# Altium footprint library Resistor.PcbLib: 31 footprints (part 1 of 2)
Each footprint in its own frame and in the unit in brackets; x right, y up, seen from the top. Pads: shape width x height; smd on the part's side, far side on the other; paste and mask are expansions set on the pad; w line width, h text height; cw(c..) or ccw(c..) is an arc to the next point about the centre after c.
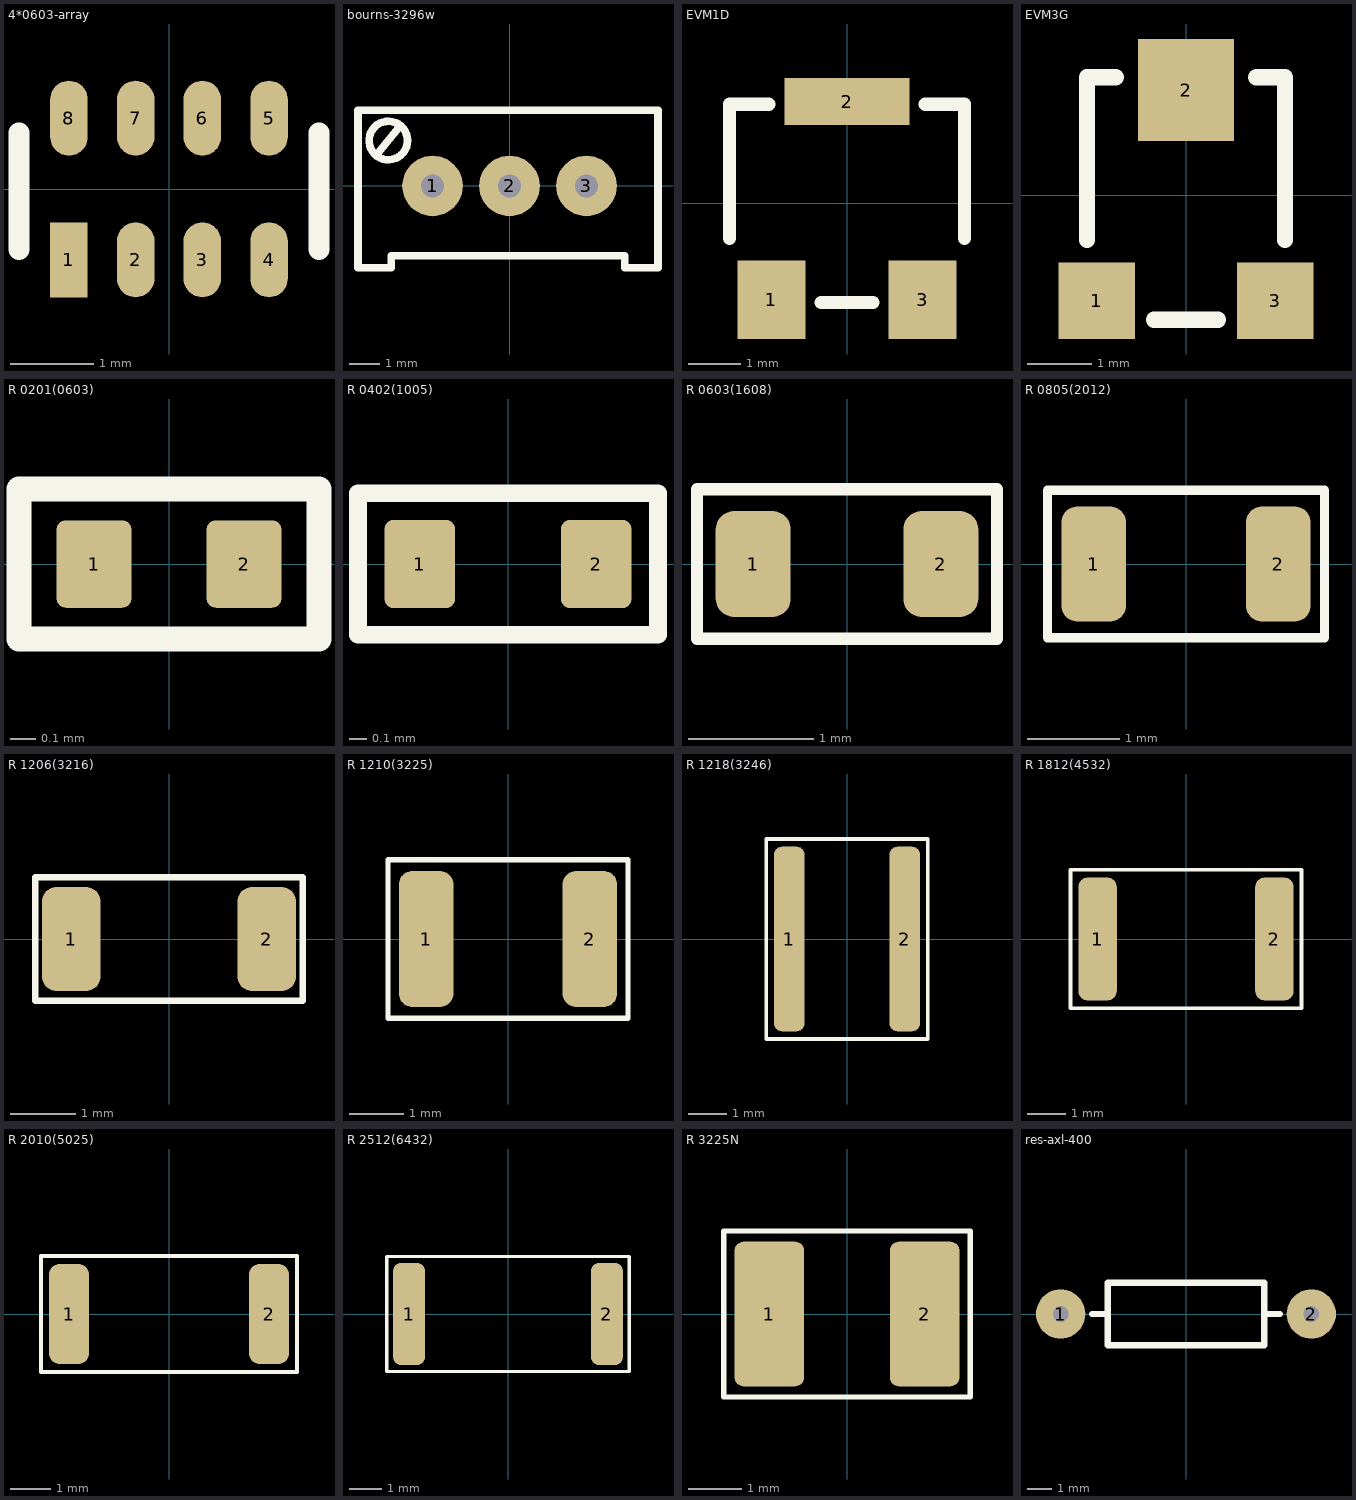
[diagram p0: the footprints below, top view; thin cyan lines are the x and y axes]

## 4*0603-array [mm]
pads (8):
  rect 0.45x0.9 smd: 1(-1.2,-0.85)
  oval 0.45x0.9 smd: 2(-0.4,-0.85) 3(0.4,-0.85) 4(1.2,-0.85) 5(1.2,0.85) 6(0.4,0.85) 7(-0.4,0.85) 8(-1.2,0.85)
Top Overlay:
  lines w0.25: -1.8,-0.725 -1.8,0.675 ; 1.8,-0.725 1.8,0.675
3D body "User Library-Array-1206-4Way-Var1.STEP": height 0.5, standoff 0, extent -1.6,-0.8 1.6,0.8

## bourns-3296w [mm] "Bourns 3296w"
height 12
pads (3):
  round 2 hole 0.762: 1(-2.54,0) 2(0,0) 3(2.54,0)
Top Overlay:
  circle w0.254: c-4,1.5 r0.635
  lines w0.25: -5,-2.7 -3.9,-2.7 -3.9,-2.3 3.8,-2.3 3.8,-2.7 4.9,-2.7 ; -4.4,1 -3.6,2
  lines w0.254: -5,-2.7 -5,2.5 4.9,2.5 4.9,-2.7
3D body "User Library-3296W.STEP": height 12.05, standoff -1.1, extent -4.79,-2.463 4.74,2.337

## EVM1D [mm] "4 mm Square SMT Trimmer Potentiometers"
height 1.4
pads (3):
  rect 1.3x1.5 smd: 1(-1.45,-1.85) 3(1.45,-1.85)
  rect 2.4x0.9 smd: 2(0,1.95)
Top Overlay:
  lines w0.254: -2.25,-0.675 -2.25,1.9 -1.5,1.9 ; -0.5,-1.9 0.5,-1.9 ; 1.5,1.9 2.25,1.9 2.25,-0.675

## EVM3G [mm] "3 mm Square SMT Trimmer Potentiometers"
height 1.65
pads (3):
  rect 1.2x1.2 smd: 1(-1.4,-1.65) 3(1.4,-1.65)
  rect 1.5x1.6 smd: 2(0,1.65)
Top Overlay:
  lines w0.254: -1.55,-0.7 -1.55,1.85 -1.1,1.85 ; -0.5,-1.95 0.5,-1.95 ; 1.1,1.85 1.55,1.85 1.55,-0.7

## R 0201(0603) [mm]
height 0.35
pads (2):
  rrect25% 0.3x0.35 smd paste-0.1 mask+0.102: 1(-0.3,0) 2(0.3,0)
Top Overlay:
  lines w0.1: -0.6,-0.3 0.6,-0.3 0.6,0.3 -0.6,0.3 -0.6,-0.3
Top Paste:
  region: -0.285,0.135 -0.315,0.135 -0.339,0.135 -0.383,0.117 -0.417,0.083 -0.435,0.039 -0.435,0.015 -0.435,-0.015 -0.435,-0.039 -0.417,-0.083 -0.383,-0.117 -0.339,-0.135 -0.315,-0.135 -0.285,-0.135 -0.261,-0.135 -0.217,-0.117 -0.183,-0.083 -0.165,-0.039 -0.165,-0.015 -0.165,0.015 -0.165,0.039 -0.183,0.083 -0.217,0.117 -0.261,0.135
  region: 0.285,0.135 0.315,0.135 0.339,0.135 0.383,0.117 0.417,0.083 0.435,0.039 0.435,0.015 0.435,-0.015 0.435,-0.039 0.417,-0.083 0.383,-0.117 0.339,-0.135 0.315,-0.135 0.285,-0.135 0.261,-0.135 0.217,-0.117 0.183,-0.083 0.165,-0.039 0.165,-0.015 0.165,0.015 0.165,0.039 0.183,0.083 0.217,0.117 0.261,0.135
Top Solder:
  region: -0.425,0.25 0.425,0.25 0.45,0.25 0.496,0.231 0.531,0.196 0.55,0.15 0.55,0.125 0.55,-0.125 0.55,-0.15 0.531,-0.196 0.496,-0.231 0.45,-0.25 0.425,-0.25 -0.425,-0.25 -0.45,-0.25 -0.496,-0.231 -0.531,-0.196 -0.55,-0.15 -0.55,-0.125 -0.55,0.125 -0.55,0.15 -0.531,0.196 -0.496,0.231 -0.45,0.25
3D body "SMD R-0201.STEP": height 0.34, standoff 0, extent -0.34,-0.165 0.34,0.165

## R 0402(1005) [mm]
height 0.35
pads (2):
  rrect25% 0.4x0.5 smd mask+0.102: 1(-0.5,0) 2(0.5,0)
Top Overlay:
  lines w0.1: -0.85,-0.4 -0.85,0.4 0.85,0.4 0.85,-0.4 -0.85,-0.4
3D body "SMD R-0402.STEP": height 0.35, standoff 0, extent -0.5,-0.25 0.5,0.25

## R 0603(1608) [mm]
height 0.45
pads (2):
  rrect50% 0.6x0.85 smd: 1(-0.75,0) 2(0.75,0)
Top Overlay:
  lines w0.1: -1.2,-0.6 1.2,-0.6 1.2,0.6 -1.2,0.6 -1.2,-0.6
3D body "SMD R-0603.STEP": height 0.45, standoff -0.01, extent -0.8,-0.4 0.8,0.4

## R 0805(2012) [mm]
height 0.55
pads (2):
  rrect50% 0.7x1.25 smd: 1(-1,0) 2(1,0)
Top Overlay:
  lines w0.1: -1.5,-0.8 -1.5,0.8 1.5,0.8 1.5,-0.8 -1.5,-0.8
3D body "SMD R-0805.STEP": height 0.6, standoff 0, extent -1,-0.625 1,0.625

## R 1206(3216) [mm]
height 0.55
pads (2):
  rrect50% 0.9x1.6 smd mask+0.102: 1(-1.5,0) 2(1.5,0)
Top Overlay:
  lines w0.1: -2.05,-0.95 2.05,-0.95 2.05,0.95 -2.05,0.95 -2.05,-0.95
3D body "SMD R-1206.STEP": height 0.6, standoff 0, extent -1.6,-0.8 1.6,0.8

## R 1210(3225) [mm]
height 0.55
pads (2):
  rrect50% 1x2.5 smd: 1(-1.5,0) 2(1.5,0)
Top Overlay:
  lines w0.1: -2.2,-1.45 2.2,-1.45 2.2,1.45 -2.2,1.45 -2.2,-1.45
3D body "SMD R-1210.STEP": height 0.9, standoff 0.3, extent -1.6,-1.25 1.6,1.25

## R 1218(3246) [mm]
height 0.55
pads (2):
  rrect50% 0.8x4.8 smd: 1(-1.5,0) 2(1.5,0)
Top Overlay:
  lines w0.1: -2.1,-2.6 -2.1,2.6 2.1,2.6 2.1,-2.6 -2.1,-2.6
3D body "SMD R-1218.STEP": height 0.85, standoff 0.3, extent -1.6,-2.3 1.6,2.3

## R 1812(4532) [mm]
height 0.55
pads (2):
  rrect50% 1x3.2 smd: 1(-2.3,0) 2(2.3,0)
Top Overlay:
  lines w0.1: -3,-1.8 3,-1.8 3,1.8 -3,1.8 -3,-1.8
3D body "SMD R-1812.STEP": height 0.6, standoff 0, extent -2.25,-1.6 2.25,1.6

## R 2010(5025) [mm]
height 0.55
pads (2):
  rrect50% 1x2.5 smd: 1(-2.5,0) 2(2.5,0)
Top Overlay:
  lines w0.1: -3.2,-1.45 3.2,-1.45 3.2,1.45 -3.2,1.45 -3.2,-1.45
3D body "SMD R-2010.STEP": height 0.62, standoff 0, extent -2.502,-1.244 2.502,1.246

## R 2512(6432) [mm]
height 0.55
pads (2):
  rrect50% 1x3.2 smd: 1(-3.1,0) 2(3.1,0)
Top Overlay:
  lines w0.1: -3.8,-1.8 -3.8,1.8 3.8,1.8 3.8,-1.8 -3.8,-1.8
3D body "SMD R-2512.STEP": height 0.62, standoff 0, extent -3.16,-1.6 3.16,1.6

## R 3225N [mm] "Chip Resistor, Body 3.2x2.5mm, IPC Medium Density"
height 0.55
pads (2):
  rrect25% 1.3x2.7 smd: 1(-1.45,0) 2(1.45,0)
Top Overlay:
  lines w0.1: -2.3,-1.55 -2.3,1.55 2.3,1.55 2.3,-1.55 -2.3,-1.55
3D body: height 0.71, standoff 0, extent -1.675,-1.32 1.675,1.32

## res-axl-400 [mm] "1/4W Resistor - Axial Mount"
height 2
pads (2):
  round 2 hole 0.635: 1(-5.08,0) 2(5.08,0)
Top Overlay:
  lines w0.254: -3.81,0 -3.175,0 ; 3.175,0 3.81,0 ; -3.175,-1.27 3.175,-1.27 3.175,1.27 -3.175,1.27 -3.175,-1.27
3D body "SW3dPS-RESISTOR, 0.25 W, 0.4 IN LEAD PITCH.STEP": height 2.93, standoff -2.54, extent -5.385,-1.143 5.385,1.168